# Altium footprint library footprints.PCBLIB: 171 footprints (part 2 of 11)
Each footprint in its own frame and in the unit in brackets; x right, y up, seen from the top. Pads: shape width x height; smd on the part's side, far side on the other; paste and mask are expansions set on the pad; w line width, h text height; cw(c..) or ccw(c..) is an arc to the next point about the centre after c.
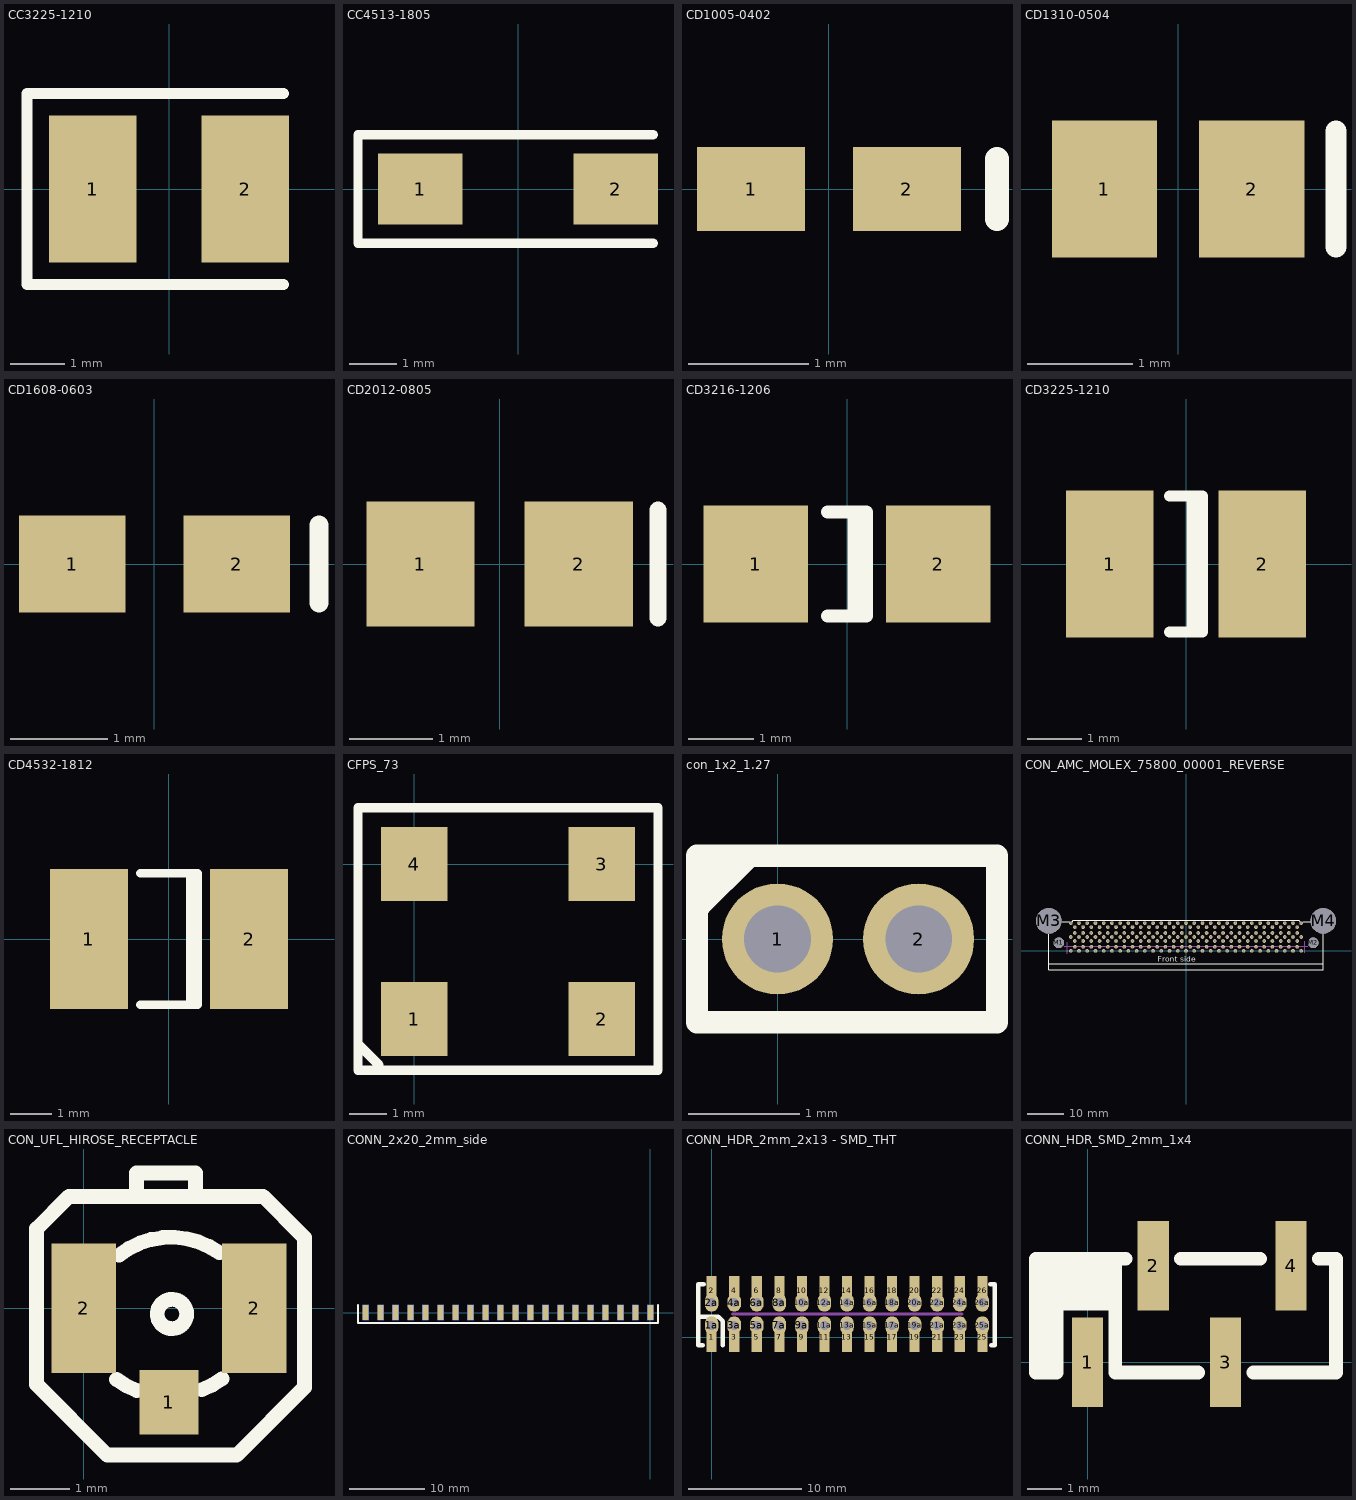
[diagram p1: the footprints below, top view; thin cyan lines are the x and y axes]

## CC3225-1210 [mm]
pads (2):
  rect 1.6x2.7 smd: 1(-1.4,0) 2(1.4,0)
Top Overlay:
  lines w0.2: 2.1,-1.75 -2.6,-1.75 -2.6,1.75 2.1,1.75

## CC4513-1805 [mm]
pads (2):
  rect 1.8x1.5 smd: 1(-2.075,0) 2(2.075,0)
Top Overlay:
  lines w0.2: 2.875,-1.15 -3.4,-1.15 -3.4,1.15 2.875,1.15

## CD1005-0402 [mm] "Chip Diode; Body 1.0 x 0.5 mm (LxW typ)"
height 0.6
pads (2):
  rect 0.9x0.7 smd: 1(-0.65,0) 2(0.65,0)
Top Overlay:
  lines w0.2: 1.4,-0.25 1.4,0.25

## CD1310-0504 [mm] "Chip Diode; Body 1.2 x 1.0 mm (LxW typ)"
height 1.02
pads (2):
  rect 1x1.3 smd: 1(-0.7,0) 2(0.7,0)
Top Overlay:
  lines w0.2: 1.5,-0.55 1.5,0.55

## CD1608-0603 [mm] "Chip Diode; Body 1.6 x 0.8 mm (LxW typ)"
height 0.85
pads (2):
  rect 1.1x1 smd: 1(-0.85,0) 2(0.85,0)
Top Overlay:
  lines w0.2: 1.7,-0.4 1.7,0.4

## CD2012-0805 [mm] "Chip Diode; Body 2.0 x 1.3 mm (LxW typ)"
height 1.1
pads (2):
  rect 1.3x1.5 smd: 1(-0.95,0) 2(0.95,0)
Top Overlay:
  lines w0.2: 1.9,-0.65 1.9,0.65

## CD3216-1206 [mm] "Chip Diode; Body 3.2 x 1.6 mm (LxW typ)"
height 1.35
pads (2):
  rect 1.6x1.8 smd: 1(-1.4,0) 2(1.4,0)
Top Overlay:
  lines w0.2: -0.3,-0.8 0.3,-0.8 0.3,0.8 -0.3,0.8 ; 0.11,-0.8 0.11,0.8

## CD3225-1210 [mm] "Chip Diode; Body 3.2 x 2.5 mm (LxW typ)"
height 1.35
pads (2):
  rect 1.6x2.7 smd: 1(-1.4,0) 2(1.4,0)
Top Overlay:
  lines w0.2: -0.3,-1.25 0.3,-1.25 0.3,1.25 -0.3,1.25 ; 0.11,-1.25 0.11,1.25

## CD4532-1812 [mm] "Chip Diode; Body 4.5 x 3.2 mm (LxW typ)"
height 1.35
pads (2):
  rect 1.9x3.4 smd: 1(-1.95,0) 2(1.95,0)
Top Overlay:
  lines w0.2: -0.7,-1.6 0.7,-1.6 0.7,1.6 -0.7,1.6 ; 0.51,-1.6 0.51,1.6

## CFPS_73 [mm]
pads (4):
  rect 1.8x2 smd: 1(0,-4.2) 2(5.08,-4.2) 3(5.08,0) 4(0,0)
Top Overlay:
  lines w0.254: -1.473,-4.928 -0.965,-5.436 ; -1.524,-5.588 6.604,-5.588 6.604,1.524 -1.524,1.524 -1.524,-5.588

## con_1x2_1.27 [mm]
pads (2):
  round 1 hole 0.6 unplated: 1(0,0) 2(1.27,0)
Top Overlay:
  lines w0.2: -0.7,0.3 -0.275,0.725 -0.45,0.725 ; -0.675,0.525 -0.525,0.675 -0.5,0.675 ; -0.725,-0.75 -0.725,0.75 1.975,0.75 1.975,-0.75 -0.725,-0.75 ; -0.7,0.475 -0.7,0.475

## CON_AMC_MOLEX_75800_00001_REVERSE [mm] "Molex AMC right-angle connector (pins reversed for the MCH)"
height 22.5
pads (203):
  round 1 hole 0.6: 1(-31.5,7.6) 2(-30.375,6.5) 3(-30.375,4.9) 4(-29.25,7.6) 5(-28.125,6.5) 6(-28.125,4.9) 7(-27,7.6) 8(-25.875,6.5) 9(-25.875,4.9) 10(-24.75,7.6) 11(-23.625,6.5) 12(-23.625,4.9) 13(-22.5,7.6) 14(-21.375,6.5) 15(-21.375,4.9) 16(-20.25,7.6) 17(-19.125,6.5) 18(-19.125,4.9) 19(-18,7.6) 20(-16.875,6.5) 21(-16.875,4.9) 22(-15.75,7.6) 23(-14.625,6.5) 24(-14.625,4.9) 25(-13.5,7.6) 26(-12.375,6.5) 27(-12.375,4.9) 28(-11.25,7.6) 29(-10.125,6.5) 30(-10.125,4.9) 31(-9,7.6) 32(-7.875,6.5) 33(-7.875,4.9) 34(-6.75,7.6) 35(-5.625,6.5) 36(-5.625,4.9) 37(-4.5,7.6) 38(-3.375,6.5) 39(-3.375,4.9) 40(-2.25,7.6) 41(-1.125,6.5) 42(-1.125,4.9) 43(0,7.6) 44(1.125,6.5) 45(1.125,4.9) 46(2.25,7.6) 47(3.375,6.5) 48(3.375,4.9) 49(4.5,7.6) 50(5.625,6.5) 51(5.625,4.9) 52(6.75,7.6) 53(7.875,6.5) 54(7.875,4.9) 55(9,7.6) 56(10.125,6.5) 57(10.125,4.9) 58(11.25,7.6) 59(12.375,6.5) 60(12.375,4.9) 61(13.5,7.6) 62(14.625,6.5) 63(14.625,4.9) 64(15.75,7.6) 65(16.875,6.5) 66(16.875,4.9) 67(18,7.6) 68(19.125,6.5) 69(19.125,4.9) 70(20.25,7.6) 71(21.375,6.5) 72(21.375,4.9) 73(22.5,7.6) 74(23.625,6.5) 75(23.625,4.9) 76(24.75,7.6) 77(25.875,6.5) 78(25.875,4.9) 79(27,7.6) 80(28.125,6.5) 81(28.125,4.9) 82(29.25,7.6) 83(30.375,6.5) 84(30.375,4.9) 85(31.5,7.6) 86(31.5,3.8) 86A(31.5,0) 87(30.375,1.1) 88(30.375,2.7) 89(29.25,3.8) 89A(29.25,0) 90(28.125,1.1) 91(28.125,2.7) 92(27,3.8) 92A(27,0) 93(25.875,1.1) 94(25.875,2.7) 95(24.75,3.8) 95A(24.75,0) 96(23.625,1.1) 97(23.625,2.7) 98(22.5,3.8) 98A(22.5,0) 99(21.375,1.1) 100(21.375,2.7) 101(20.25,3.8) 101A(20.25,0) 102(19.125,1.1) 103(19.125,2.7) 104(18,3.8) 104A(18,0) 105(16.875,1.1) 106(16.875,2.7) 107(15.75,3.8) 107A(15.75,0) 108(14.625,1.1) 109(14.625,2.7) 110(13.5,3.8) 110A(13.5,0) 111(12.375,1.1) 112(12.375,2.7) 113(11.25,3.8) 113A(11.25,0) 114(10.125,1.1) 115(10.125,2.7) 116(9,3.8) 116A(9,0) 117(7.875,1.1) 118(7.875,2.7) 119(6.75,3.8) 119A(6.75,0) 120(5.625,1.1) 121(5.625,2.7) 122(4.5,3.8) 122A(4.5,0) 123(3.375,1.1) 124(3.375,2.7) 125(2.25,3.8) 125A(2.25,0) 126(1.125,1.1) 127(1.125,2.7) 128(0,3.8) 128A(0,0) 129(-1.125,1.1) 130(-1.125,2.7) 131(-2.25,3.8) 131A(-2.25,0) 132(-3.375,1.1) 133(-3.375,2.7) 134(-4.5,3.8) 134A(-4.5,0) 135(-5.625,1.1) 136(-5.625,2.7) 137(-6.75,3.8) 137A(-6.75,0) 138(-7.875,1.1) 139(-7.875,2.7) 140(-9,3.8) 140A(-9,0) 141(-10.125,1.1) 142(-10.125,2.7) 143(-11.25,3.8) 143A(-11.25,0) 144(-12.375,1.1) 145(-12.375,2.7) 146(-13.5,3.8) 146A(-13.5,0) 147(-14.625,1.1) 148(-14.625,2.7) 149(-15.75,3.8) 149A(-15.75,0) 150(-16.875,1.1) 151(-16.875,2.7) 152(-18,3.8) 152A(-18,0) 153(-19.125,1.1) 154(-19.125,2.7) 155(-20.25,3.8) 155A(-20.25,0) 156(-21.375,1.1) 157(-21.375,2.7) 158(-22.5,3.8) 158A(-22.5,0) 159(-23.625,1.1) 160(-23.625,2.7) 161(-24.75,3.8) 161A(-24.75,0) 162(-25.875,1.1) 163(-25.875,2.7) 164(-27,3.8) 164A(-27,0) 165(-28.125,1.1) 166(-28.125,2.7) 167(-29.25,3.8) 168(-30.375,1.1) 169(-30.375,2.7) 170(-31.5,3.8) 170A(-31.5,0) nc(-29.25,0)
  round 2.9 hole 2.9: M1(-34.75,2.2) M2(34.75,2.2)
  round 7 hole 7: M3(-37.5,8.2) M4(37.5,8.2)
Top Overlay:
  lines w0.2: -37.5,-3.45 37.4,-3.45 ; -37.5,1.55 -37.5,4.55 ; -37.5,2.2 -37.5,-5.2 36.4,-5.2 ; -33.8,8 -31.95,8 ; -31.15,8 -30.8,8.35 30.85,8.35 31.125,8.075 ; 32,8 37.45,8 37.5,7.95 37.5,2.2 37.5,-5.2 36.25,-5.2
  text "Front side" at -7.75,-3 h1.52
Mechanical 15:
  lines w0.2: -33.25,1.2 -32.05,1.2 ; -32.5,-0.75 -32.5,1.2 33.25,1.2 ; -32.5,1 -32.5,2.4 ; 32.5,-0.45 32.5,1.2 32.5,2.65
  text "Card edge" at -8.1,2.3 h1.52

## CON_UFL_HIROSE_RECEPTACLE [mm]
pads (3):
  rect 1x1.1 smd: 1(1.45,-1.6)
  rect 1.1x2.2 smd: 2(0,0) 2(2.9,0)
Top Overlay:
  circle w0.25: c1.5,-0.1 r0.25
  lines w0.25: 0.559,-1.212 ccw(c1.373,-0.139) 0.9,-1.4 ; 0.6,0.9 cw(c1.481,-0.216) 2.307,0.941 ; 2.009,-1.388 ccw(c1.536,-0.127) 2.35,-1.2
  lines w0.254: 0.9,1.9 0.9,2.3 1.9,2.3 1.9,2 ; -0.8,-1.3 0.4,-2.5 2.6,-2.5 3.75,-1.35 3.75,1.2 3.05,1.9 -0.25,1.9 -0.8,1.35 -0.8,-1.3

## CONN_2x20_2mm_side [mm]
pads (40):
  rect 0.8x2 smd: 1(0,0) 3(-2,0) 5(-4,0) 7(-6,0) 9(-8,0) 11(-10,0) 13(-12,0) 15(-14,0) 17(-16,0) 19(-18,0) 21(-20,0) 23(-22,0) 25(-24,0) 27(-26,0) 29(-28,0) 31(-30,0) 33(-32,0) 35(-34,0) 37(-36,0) 39(-38,0)
  rect 0.8x2 smd far side: 2(0,0) 4(-2,0) 6(-4,0) 8(-6,0) 10(-8,0) 12(-10,0) 14(-12,0) 16(-14,0) 18(-16,0) 20(-18,0) 22(-20,0) 24(-22,0) 26(-24,0) 28(-26,0) 30(-28,0) 32(-30,0) 34(-32,0) 36(-34,0) 38(-36,0) 40(-38,0)
Top Overlay:
  lines w0.3: -39,1 -39,-1.4 1,-1.4 1,1

## CONN_HDR_2mm_2x13 - SMD_THT [mm]
pads (52):
  rect 0.9x2.6 smd: 1(0,0) 2(0,4.1) 3(2,0) 4(2,4.1) 5(4,0) 6(4,4.1) 7(6,0) 8(6,4.1) 9(8,0) 10(8,4.1) 11(10,0) 12(10,4.1) 13(12,0) 14(12,4.1) 15(14,0) 16(14,4.1) 17(16,0) 18(16,4.1) 19(18,0) 20(18,4.1) 21(20,0) 22(20,4.1) 23(22,0) 24(22,4.1) 25(24,0) 26(24,4.1)
  oval 1.2x1.6 hole 0.8: 1a(0,1.05) 2a(0,3.05) 3a(2,1.05) 4a(2,3.05) 5a(4,1.05) 6a(4,3.05) 7a(6,1.05) 8a(6,3.05) 9a(8,1.05) 10a(8,3.05) 11a(10,1.05) 12a(10,3.05) 13a(12,1.05) 14a(12,3.05) 15a(14,1.05) 16a(14,3.05) 17a(16,1.05) 18a(16,3.05) 19a(18,1.05) 20a(18,3.05) 21a(20,1.05) 22a(20,3.05) 23a(22,1.05) 24a(22,3.05) 25a(24,1.05) 26a(24,3.05)
Top Overlay:
  lines w0.4: -1.1,1.8 0.6,1.8 1,1.4 1,-0.7 ; -0.8,-0.7 -1.2,-0.7 -1.2,4.7 -0.7,4.7 ; 24.7,4.7 25.1,4.7 25.1,1.8 25.1,-0.7 24.8,-0.7
Mechanical 15:
  lines w0.256: 1.85,2.05 22.2,2.05

## CONN_HDR_SMD_2mm_1x4 [mm]
pads (4):
  rect 0.9x2.6 smd: 1(0,0) 2(1.9,2.8) 3(4,0) 4(5.9,2.8)
Top Overlay:
  rectangle: -1.3,1.5 0.7,2.8
  rectangle: -1.4,-0.3 -0.7,1.9
  lines w0.4: -0.9,-0.3 -1.5,-0.3 -1.5,3 1.1,3 ; 0.6,2.4 0.5,2.5 -1.3,2.5 -1.1,2.7 0.7,2.7 0.8,2.8 0.8,-0.3 3.2,-0.3 ; 2.7,3 5,3 ; 4.8,-0.3 7.2,-0.3 7.2,3 6.7,3